# Altium schematic symbol library EVQ-P7J01P.SchLib: 1 symbol
Pins are listed as number, name and electrical type; pins without a type are passive.

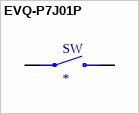
[diagram p0: symbol EVQ-P7J01P]

## EVQ-P7J01P
designator SW
Tactile Switch SPST-NO Side Actuated Surface Mount, Right Angle; MF: Panasonic Electronic; MP: EVQ-P7J01P; Package: None; Value: *; Price: None; SnapEDA_Link: https://www.snapeda.com/parts/EVQ-P7J01P/Panasonic%20Electronic%20Components/view-part/523087/?ref=snap; Availability: Unavailable
footprint SW_EVQ-P7J01P
pins: 1_1 1, 1_2 1, 2_1 2, 2_2 2